# Altium schematic symbol library Micro_USB.SchLib: 1 symbol
Pins are listed as number, name and electrical type; pins without a type are passive.

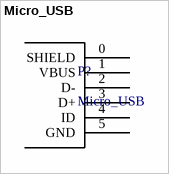
[diagram p0: symbol Micro_USB]

## Micro_USB
designator P?
footprint Micro_USB
pins: 0 SHIELD, 1 VBUS, 2 D-, 3 D+, 4 ID, 5 GND